# EAGLE library part NODEMCU_ESP32_WROOM_32 (library ESP32 NODEMCU WROOM 32)
NODEMCU ESP32 WROOM 32 38 Pins PINOUT: https://cdn.shopify.com/s/files/1/1509/1638/files/ESP_-_32_NodeMCU_Developmentboard_Pinout_Diagram.jpg?4479111012146266271
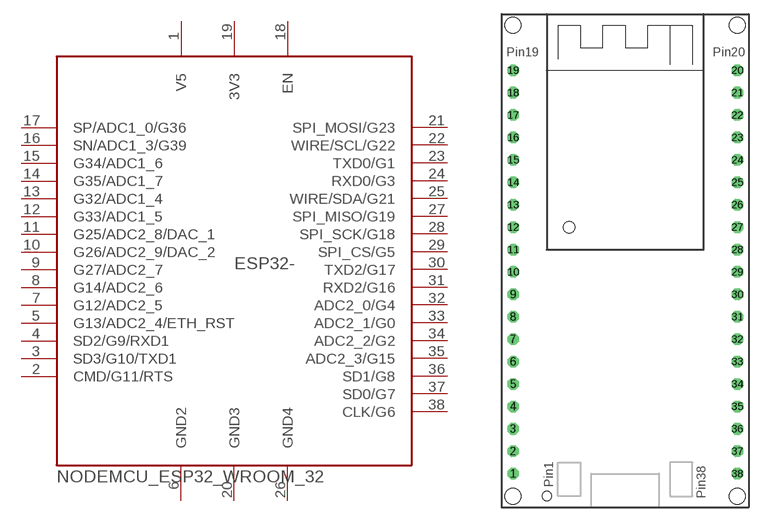
[diagram p0: symbol with the pads of NODEMCU_ESP32_WROOM_32--38PINS; footprint NODEMCU_ESP32_WROOM_32--38PINS]

Designator prefix ESP32-

## NODEMCU_ESP32_WROOM_32 (ESP: ESP32 WROOM 32)  [NODEMCU_ESP32_WROOM_32--38PINS]
1  V5  pwr
2  CMD/G11/RTS  pwr
3  SD3/G10/TXD1
4  SD2/G9/RXD1
5  G13/ADC2_4/ETH_RST
6  GND2  pwr
7  G12/ADC2_5
8  G14/ADC2_6
9  G27/ADC2_7
10  G26/ADC2_9/DAC_2
11  G25/ADC2_8/DAC_1
12  G33/ADC1_5
13  G32/ADC1_4
14  G35/ADC1_7
15  G34/ADC1_6
16  SN/ADC1_3/G39
17  SP/ADC1_0/G36
18  EN
19  3V3  pwr
20  GND3  pwr
21  SPI_MOSI/G23
22  WIRE/SCL/G22
23  TXD0/G1
24  RXD0/G3
25  WIRE/SDA/G21
26  GND4  pwr
27  SPI_MISO/G19
28  SPI_SCK/G18
29  SPI_CS/G5
30  TXD2/G17
31  RXD2/G16
32  ADC2_0/G4
33  ADC2_1/G0
34  ADC2_2/G2
35  ADC2_3/G15
36  SD1/G8
37  SD0/G7
38  CLK/G6

## Footprint NODEMCU_ESP32_WROOM_32--38PINS (pad centres in mm)
ESP32_DEVKIT
drill 0.8 octagon: 1 -13.97,-27.94; 2 -13.97,-25.4; 3 -13.97,-22.86; 4 -13.97,-20.32; 5 -13.97,-17.78; 6 -13.97,-15.24; 7 -13.97,-12.7; 8 -13.97,-10.16; 9 -13.97,-7.62; 10 -13.97,-5.08; 11 -13.97,-2.54; 12 -13.97,0; 13 -13.97,2.54; 14 -13.97,5.08; 15 -13.97,7.62; 16 -13.97,10.16; 17 -13.97,12.7; 18 -13.97,15.24; 19 -13.97,17.78; 20 11.43,17.78; 21 11.43,15.24; 22 11.43,12.7; 23 11.43,10.16; 24 11.43,7.62; 25 11.43,5.08; 26 11.43,2.54; 27 11.43,0; 28 11.43,-2.54; 29 11.43,-5.08; 30 11.43,-7.62; 31 11.43,-10.16; 32 11.43,-12.7; 33 11.43,-15.24; 34 11.43,-17.78; 35 11.43,-20.32; 36 11.43,-22.86; 37 11.43,-25.4; 38 11.43,-27.94